# Altium integrated library ASCO-8.000MHZ-EK-T3.IntLib: 1 symbol
Pins are listed as number, name and electrical type; pins without a type are passive.

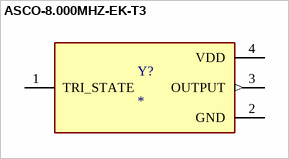
[diagram p0: symbol ASCO-8.000MHZ-EK-T3]

## ASCO-8.000MHZ-EK-T3
designator Y?
MP: ASCO-8.000MHZ-EK-T3; Availability: Unavailable; Price: None; Package: None; Value: *
footprint XTAL_ASCO-8.000MHZ-EK-T3
pins: 1 TRI_STATE, 2 GND (power), 3 OUTPUT (out), 4 VDD (power)